# Altium schematic symbol library altium_symbol.SchLib: 58 symbols
Pins are listed as number, name and electrical type; pins without a type are passive.

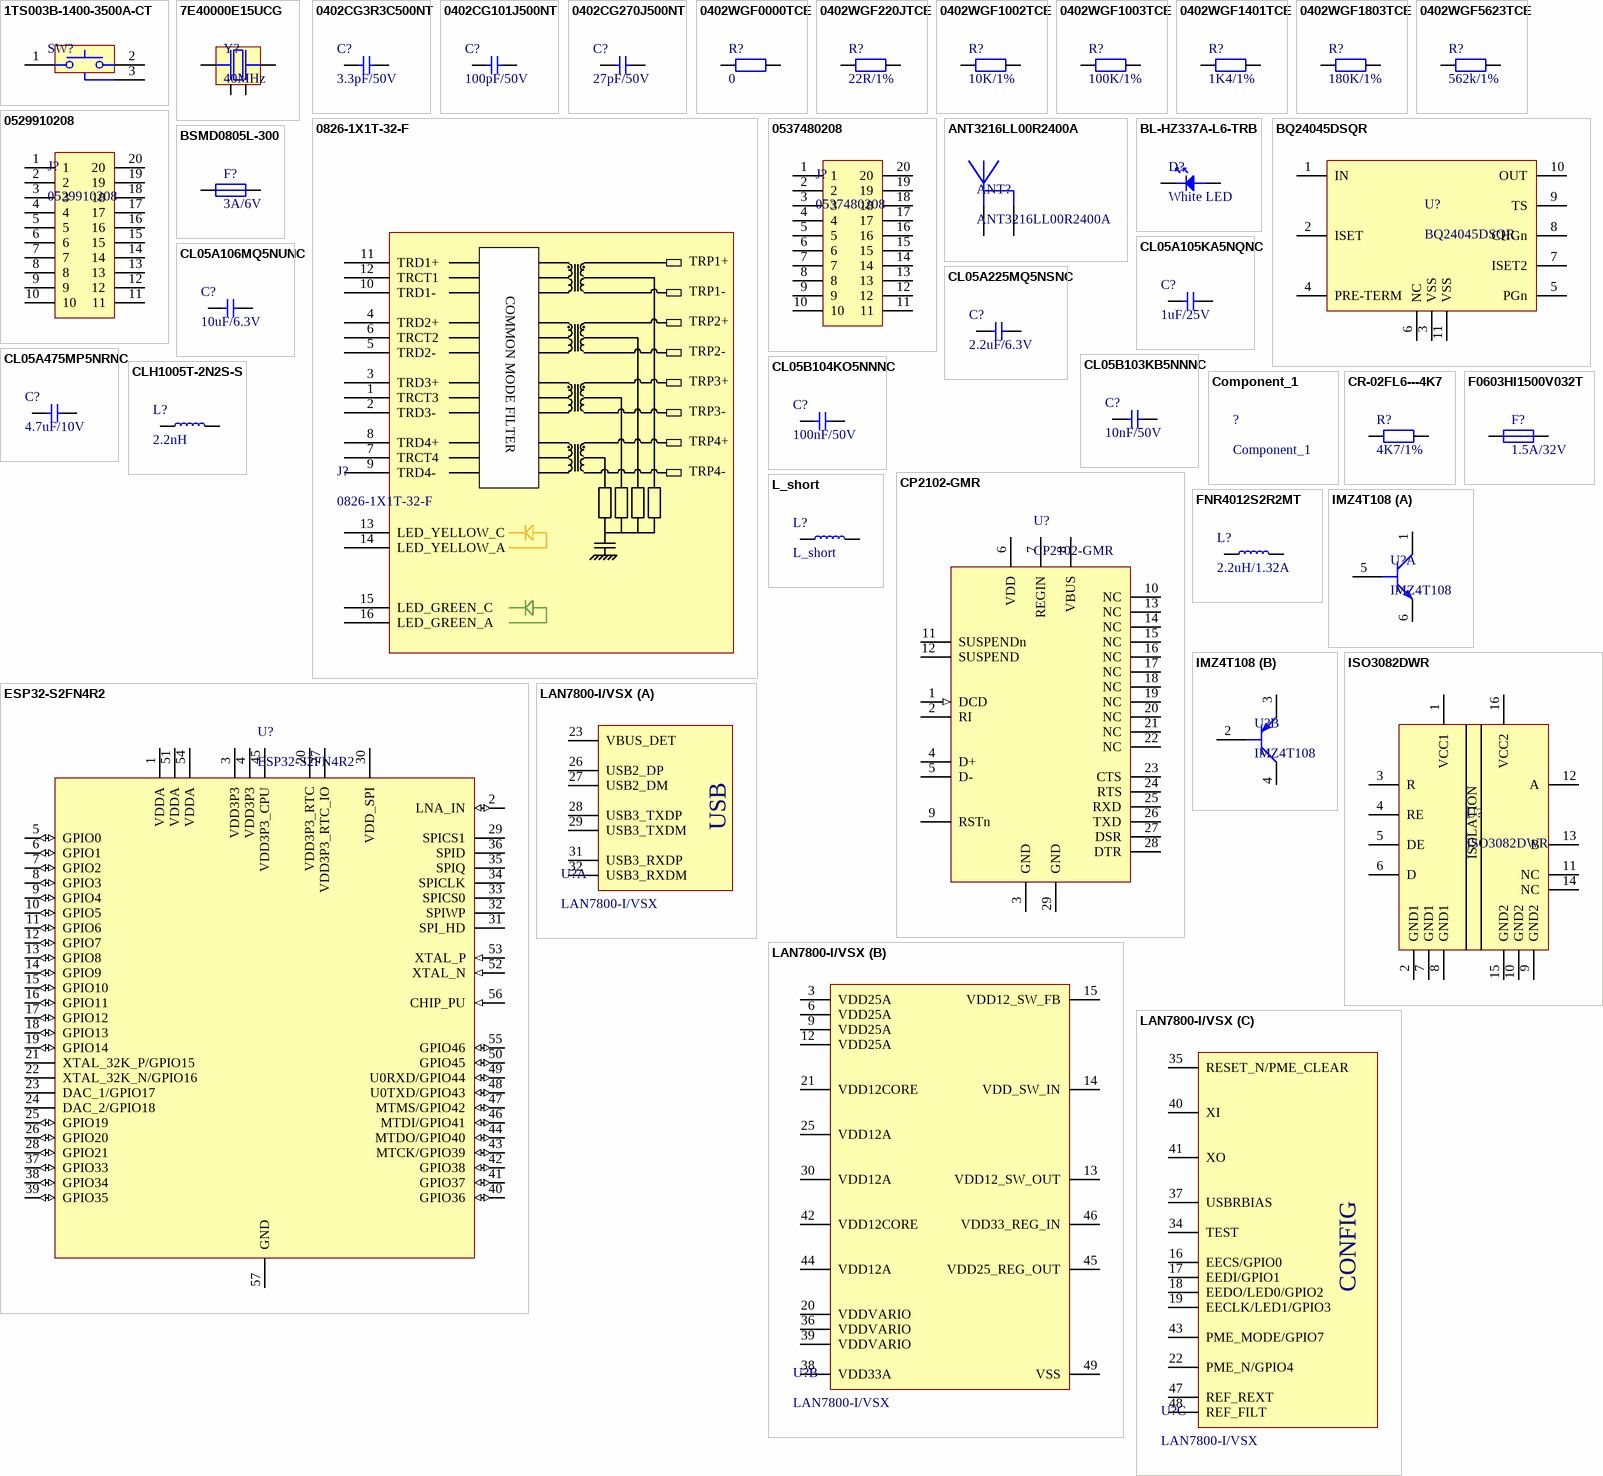
[diagram p0: symbols 1TS003B-1400-3500A-CT to LAN7800-I/VSX]

## 1TS003B-1400-3500A-CT
designator SW?, comment PUSH BUTTON SMD  (value not drawn)
No NO 0.6W J pin 50mA 4.6mm 100MΩ 50000 140gf@±30gf 12V -40℃~+90℃ 1.82mm 3.5mm Black Rectangle button Surface Mount SPST SMD,4.6x1.82x3.5mm  Tactile Switches ROHS; manufacturer: HYP (Hongyuan Precision); mfr_part_number: 1TS003B-1400-3500A-CT; assembler_number: C319392; datasheet: https://datasheet.lcsc.com/lcsc/1811070920_HYP--Hongyuan-Precision-1TS003B-1400-3500A-CT_C319392.pdf
footprint 1TS003B-1400-3500A-CT
pins: 1, 2, 3

## 7E40000E15UCG
designator Y?, comment 40MHz
40MHz SMD Crystal Resonator 15pF ±10ppm ±30ppm -40℃~+85℃ SMD2520-4P  Crystals ROHS; manufacturer: SJK(SHENZHEN CRYSTAL TECH); mfr_part_number: 7E40000E15UCG; assembler_number: C524681; datasheet: https://datasheet.lcsc.com/lcsc/2207271530_SJK-SHENZHEN-CRYSTAL-TECH-7E40000E15UCG_C524681.pdf
footprint 7E40000E15UCG
pins: 1, 2, 3, 4

## 0402CG3R3C500NT
designator C?, comment 3.3pF/50V
50V 3.3pF C0G ±0.25pF 0402  Multilayer Ceramic Capacitors MLCC - SMD/SMT ROHS; manufacturer: FH (Guangdong Fenghua Advanced Tech); mfr_part_number: 0402CG3R3C500NT; assembler_number: C1565; datasheet: https://datasheet.lcsc.com/lcsc/1811141710_FH--Guangdong-Fenghua-Advanced-Tech-0402CG3R3C500NT_C1565.pdf
footprint CAPC1005X06N (Chip Capacitor, 2-Leads, Body 1.00x0.50mm, IPC Medium Density)
pins: 1, 2

## 0402CG101J500NT
designator C?, comment 100pF/50V
50V 100pF C0G ±5% 0402  Multilayer Ceramic Capacitors MLCC - SMD/SMT ROHS; manufacturer: FH (Guangdong Fenghua Advanced Tech); mfr_part_number: 0402CG101J500NT; assembler_number: C1546; datasheet: https://datasheet.lcsc.com/lcsc/1810151218_FH--Guangdong-Fenghua-Advanced-Tech-0402CG101J500NT_C1546.pdf
footprint CAPC1005X06N (Chip Capacitor, 2-Leads, Body 1.00x0.50mm, IPC Medium Density)
pins: 1, 2

## 0402CG270J500NT
designator C?, comment 27pF/50V
50V 27pF C0G ±5% 0402  Multilayer Ceramic Capacitors MLCC - SMD/SMT ROHS; manufacturer: FH (Guangdong Fenghua Advanced Tech); mfr_part_number: 0402CG270J500NT; assembler_number: C1557; datasheet: https://datasheet.lcsc.com/lcsc/1811141710_FH--Guangdong-Fenghua-Advanced-Tech-0402CG270J500NT_C1557.pdf
footprint CAPC1005X06N (Chip Capacitor, 2-Leads, Body 1.00x0.50mm, IPC Medium Density)
pins: 1, 2

## 0402WGF0000TCE
designator R?, comment 0
62.5mW Thick Film Resistors 50V ±800ppm/℃ ±1% -55℃~+155℃ 0Ω 0402  Chip Resistor - Surface Mount ROHS; manufacturer: UNI-ROYAL(Uniroyal Elec); mfr_part_number: 0402WGF0000TCE; assembler_number: C17168; datasheet: https://datasheet.lcsc.com/lcsc/2206010216_UNI-ROYAL-Uniroyal-Elec-0402WGF0000TCE_C17168.pdf
footprint RESC1005X04N (Chip Resistor, 2-Leads, Body 1.00x0.50mm, IPC Medium Density)
pins: 1, 2

## 0402WGF220JTCE
designator R?, comment 22R/1%
62.5mW Thick Film Resistors 50V ±1% ±200ppm/℃ -55℃~+155℃ 22Ω 0402  Chip Resistor - Surface Mount ROHS; manufacturer: UNI-ROYAL(Uniroyal Elec); mfr_part_number: 0402WGF220JTCE; assembler_number: C25092; datasheet: https://datasheet.lcsc.com/lcsc/2205311900_UNI-ROYAL-Uniroyal-Elec-0402WGF220JTCE_C25092.pdf
footprint RESC1005X04N (Chip Resistor, 2-Leads, Body 1.00x0.50mm, IPC Medium Density)
pins: 1, 2

## 0402WGF1002TCE
designator R?, comment 10K/1%
62.5mW Thick Film Resistors 50V ±100ppm/℃ ±1% -55℃~+155℃ 10kΩ 0402  Chip Resistor - Surface Mount ROHS; manufacturer: UNI-ROYAL(Uniroyal Elec); mfr_part_number: 0402WGF1002TCE; assembler_number: C25744; datasheet: https://datasheet.lcsc.com/lcsc/2206010100_UNI-ROYAL-Uniroyal-Elec-0402WGF1002TCE_C25744.pdf
footprint RESC1005X04N (Chip Resistor, 2-Leads, Body 1.00x0.50mm, IPC Medium Density)
pins: 1, 2

## 0402WGF1003TCE
designator R?, comment 100K/1%
62.5mW Thick Film Resistors 50V ±100ppm/℃ ±1% -55℃~+155℃ 100kΩ 0402  Chip Resistor - Surface Mount ROHS; manufacturer: UNI-ROYAL(Uniroyal Elec); mfr_part_number: 0402WGF1003TCE; assembler_number: C25741; datasheet: https://datasheet.lcsc.com/lcsc/2206010100_UNI-ROYAL-Uniroyal-Elec-0402WGF1003TCE_C25741.pdf
footprint RESC1005X04N (Chip Resistor, 2-Leads, Body 1.00x0.50mm, IPC Medium Density)
pins: 1, 2

## 0402WGF1401TCE
designator R?, comment 1K4/1%
62.5mW Thick Film Resistors 50V ±100ppm/℃ ±1% -55℃~+155℃ 1.4kΩ 0402  Chip Resistor - Surface Mount ROHS; manufacturer: UNI-ROYAL(Uniroyal Elec); mfr_part_number: 0402WGF1401TCE; assembler_number: C39650; datasheet: https://datasheet.lcsc.com/lcsc/2206010000_UNI-ROYAL-Uniroyal-Elec-0402WGF1401TCE_C39650.pdf
footprint RESC1005X04N (Chip Resistor, 2-Leads, Body 1.00x0.50mm, IPC Medium Density)
pins: 1, 2

## 0402WGF1803TCE
designator R?, comment 180K/1%
62.5mW Thick Film Resistors 50V ±100ppm/℃ ±1% -55℃~+155℃ 180kΩ 0402  Chip Resistor - Surface Mount ROHS; manufacturer: UNI-ROYAL(Uniroyal Elec); mfr_part_number: 0402WGF1803TCE; assembler_number: C25760; datasheet: https://datasheet.lcsc.com/lcsc/2206010100_UNI-ROYAL-Uniroyal-Elec-0402WGF1803TCE_C25760.pdf
footprint RESC1005X04N (Chip Resistor, 2-Leads, Body 1.00x0.50mm, IPC Medium Density)
pins: 1, 2

## 0402WGF5623TCE
designator R?, comment 562k/1%
62.5mW Thick Film Resistors 50V ±100ppm/℃ ±1% -55℃~+155℃ 562kΩ 0402  Chip Resistor - Surface Mount ROHS; manufacturer: UNI-ROYAL(Uniroyal Elec); mfr_part_number: 0402WGF5623TCE; assembler_number: C48838; datasheet: https://datasheet.lcsc.com/lcsc/2206010000_UNI-ROYAL-Uniroyal-Elec-0402WGF5623TCE_C48838.pdf
footprint RESC1005X04N (Chip Resistor, 2-Leads, Body 1.00x0.50mm, IPC Medium Density)
pins: 1, 2

## 0826-1X1T-32-F
designator J?
1 Port RJ45Through Hole 10/100/1000 Base-T, AutoMDIX; manufacturer: Bel Fuse Inc.; mfr_part_number: 0826-1X1T-32-F; assembler_number: 0826-1X1T-32-F; datasheet: https://www.belfuse.com/resources/drawings/magneticsolutions/dr-mag-0826-1x1t-32-f.pdf
footprint 0826-1X1T-32-F
pins: 1 TRCT3, 2 TRD3-, 3 TRD3+, 4 TRD2+, 5 TRD2-, 6 TRCT2, 7 TRCT4, 8 TRD4+, 9 TRD4-, 10 TRD1-, 11 TRD1+, 12 TRCT1, 13 LED_YELLOW_C, 14 LED_YELLOW_A, 15 LED_GREEN_C, 16 LED_GREEN_A
text: TRP1+; COMMON MODE FILTER; TRP1-; TRP2+; TRP2-; TRP3+; TRP3-; TRP4+; TRP4-

## 0529910208
designator J?
CONN PLUG 20POS SMD GOLD; manufacturer: MOLEX; mfr_part_number: 0529910208; datasheet: https://www.molex.com/pdm_docs/sd/529910208_sd.pdf
footprint 0529910208
pins: 1, 2, 3, 4, 5, 6, 7, 8, 9, 10, 11, 12, 13, 14, 15, 16, 17, 18, 19, 20

## 0537480208
designator J?
CONN PLUG 20POS SMD GOLD; manufacturer: MOLEX; assembler_number: C564063; mfr_part_number: 0537480208; datasheet: https://datasheet.lcsc.com/lcsc/2206301915_MOLEX-537480208_C564063.pdf
footprint 0537480208
pins: 1, 2, 3, 4, 5, 6, 7, 8, 9, 10, 11, 12, 13, 14, 15, 16, 17, 18, 19, 20

## ANT3216LL00R2400A
designator ANT?
1206  Antennas ROHS; manufacturer: YAGEO; assembler_number: C293767; mfr_part_number: ANT3216LL00R2400A; datasheet: https://datasheet.lcsc.com/lcsc/1810241140_YAGEO-ANT3216LL00R2400A_C293767.pdf
footprint INDC3216X14N (Chip Inductor, 2-Leads, Body 3.20x1.60mm, IPC Medium Density)
pins: 1, 2

## BL-HZ337A-L6-TRB
designator D?, comment White LED
White 0402 Light Emitting Diodes (LED) RoHS; manufacturer: BrtLed(Bright LED Elec); mfr_part_number: BL-HZ337A-L6-TRB; assembler_number: C189305; datasheet: https://datasheet.lcsc.com/szlcsc/1809141612_BrtLed-Bright-LED-Elec-BL-HZ337A-L6-TRB_C189305.pdf
footprint RESC1005X04N (Chip Resistor, 2-Leads, Body 1.00x0.50mm, IPC Medium Density)
pins: 1, 2

## BQ24045DSQR
designator U?
WSON-10  Battery Management ICs ROHS; manufacturer: Texas Instruments; assembler_number: C148983; mfr_part_number: BQ24045DSQR; datasheet: https://www.ti.com/lit/ds/symlink/bq24045.pdf?HQS=dis-dk-null-digikeymode-dsf-pf-null-wwe&ts=1671793040477&ref_url=https%253A%252F%252Fwww.ti.com%252Fgeneral%252Fdocs%252Fsuppproductinfo.tsp%253FdistId%253D10%2526gotoUrl%253Dhttps%253A%252F%252Fwww.ti.com%252Flit%252Fgpn%252Fbq24045
footprint SON40P200X80_HS-11N (SON, 10-Leads, Body 2.00x2.00mm, Pitch 0.40mm, Thermal Pad 1.50x0.69mm, IPC Medium Density)
pins: 1 IN, 2 ISET, 3 VSS, 4 PRE-TERM, 5 PGn, 6 NC, 7 ISET2, 8 CHGn, 9 TS, 10 OUT, 11 VSS

## BSMD0805L-300
designator F?, comment 3A/6V
6V 3A 50A 1W -40℃~+85℃ 6A 3mΩ 5s 30mΩ 0805  Resettable Fuses ROHS; manufacturer: BHFUSE; mfr_part_number: BSMD0805L-300; assembler_number: C2757932; datasheet: https://datasheet.lcsc.com/lcsc/2203021130_BHFUSE-BSMD0805L-300_C2757932.pdf
footprint BSMD0805L-300
pins: 1, 2

## CL05A105KA5NQNC
designator C?, comment 1uF/25V
25V 1uF X5R ±10% 0402  Multilayer Ceramic Capacitors MLCC - SMD/SMT ROHS; manufacturer: Samsung Electro-Mechanics; mfr_part_number: CL05A105KA5NQNC; assembler_number: C52923; datasheet: https://datasheet.lcsc.com/lcsc/1811091611_Samsung-Electro-Mechanics-CL05A105KA5NQNC_C52923.pdf
footprint CAPC1005X06N (Chip Capacitor, 2-Leads, Body 1.00x0.50mm, IPC Medium Density)
pins: 1, 2

## CL05A106MQ5NUNC
designator C?, comment 10uF/6.3V
6.3V 10uF X5R ±20% 0402  Multilayer Ceramic Capacitors MLCC - SMD/SMT ROHS; manufacturer: Samsung Electro-Mechanics; mfr_part_number: CL05A106MQ5NUNC; assembler_number: C15525; datasheet: https://datasheet.lcsc.com/lcsc/2208231630_Samsung-Electro-Mechanics-CL05A106MQ5NUNC_C15525.pdf
footprint CAPC1005X06N (Chip Capacitor, 2-Leads, Body 1.00x0.50mm, IPC Medium Density)
pins: 1, 2

## CL05A225MQ5NSNC
designator C?, comment 2.2uF/6.3V
6.3V 2.2uF X5R ±20% 0402  Multilayer Ceramic Capacitors MLCC - SMD/SMT ROHS; manufacturer: Samsung Electro-Mechanics; mfr_part_number: CL05A225MQ5NSNC; assembler_number: C12530; datasheet: https://datasheet.lcsc.com/lcsc/1811021410_Samsung-Electro-Mechanics-CL05A225MQ5NSNC_C12530.pdf
footprint CAPC1005X06N (Chip Capacitor, 2-Leads, Body 1.00x0.50mm, IPC Medium Density)
pins: 1, 2

## CL05A475MP5NRNC
designator C?, comment 4.7uF/10V
10V 4.7uF X5R ±20% 0402  Multilayer Ceramic Capacitors MLCC - SMD/SMT ROHS; manufacturer: Samsung Electro-Mechanics; mfr_part_number: CL05A475MP5NRNC; assembler_number: C23733; datasheet: https://datasheet.lcsc.com/lcsc/1810191211_Samsung-Electro-Mechanics-CL05A475MP5NRNC_C23733.pdf
footprint CAPC1005X06N (Chip Capacitor, 2-Leads, Body 1.00x0.50mm, IPC Medium Density)
pins: 1, 2

## CL05B103KB5NNNC
designator C?, comment 10nF/50V
50V 10nF X7R ±10% 0402  Multilayer Ceramic Capacitors MLCC - SMD/SMT ROHS; manufacturer: Samsung Electro-Mechanics; mfr_part_number: CL05B103KB5NNNC; assembler_number: C15195; datasheet: https://datasheet.lcsc.com/lcsc/1810191223_Samsung-Electro-Mechanics-CL05B103KB5NNNC_C15195.pdf
footprint CAPC1005X06N (Chip Capacitor, 2-Leads, Body 1.00x0.50mm, IPC Medium Density)
pins: 1, 2

## CL05B104KO5NNNC
designator C?, comment 100nF/50V
16V 100nF X7R ±10% 0402  Multilayer Ceramic Capacitors MLCC - SMD/SMT ROHS; manufacturer: Samsung Electro-Mechanics; mfr_part_number: CL05B104KO5NNNC; assembler_number: C1525; datasheet: https://datasheet.lcsc.com/lcsc/1810191219_Samsung-Electro-Mechanics-CL05B104KO5NNNC_C1525.pdf
footprint CAPC1005X06N (Chip Capacitor, 2-Leads, Body 1.00x0.50mm, IPC Medium Density)
pins: 1, 2

## CLH1005T-2N2S-S
designator L?, comment 2.2nH
400mA 2.2nH ±0.3nH 120mΩ 0402  Inductors (SMD) ROHS; manufacturer: Chilisin Elec; mfr_part_number: CLH1005T-2N2S-S; assembler_number: C108254; datasheet: https://datasheet.lcsc.com/lcsc/1811141627_Chilisin-Elec-CLH1005T-2N2S-S_C108254.pdf
footprint INDC1005X05N (Chip Inductor, 2-Leads, Body 1.00x0.50mm, IPC Medium Density)
pins: 1, 2

## Component_1
designator ?
manufacturer: xyz; assembler_number: 12345; mfr_part_number: xyz; datasheet: xyz

## CP2102-GMR
designator U?
Transceiver 1Mbps USB 1/1 QFN-28_5x5x05P  USB ICs ROHS; manufacturer: SILICON LABS; assembler_number: C6568; mfr_part_number: CP2102-GMR; datasheet: https://datasheet.lcsc.com/lcsc/1811081920_SILICON-LABS-CP2102-GMR_C6568.pdf
footprint QFN50P500X500X100_HS-29N (QFN, 28-Leads, Body 5.00x5.00mm, Pitch 0.50mm, Thermal Pad 3.13x3.13mm, IPC Medium Density)
pins: 1 DCD (in), 2 RI, 3 GND, 4 D+, 5 D-, 6 VDD, 7 REGIN, 8 VBUS, 9 RSTn, 10 NC, 11 SUSPENDn, 12 SUSPEND, 13 NC, 14 NC, 15 NC, 16 NC, 17 NC, 18 NC, 19 NC, 20 NC, 21 NC, 22 NC, 23 CTS, 24 RTS, 25 RXD, 26 TXD, 27 DSR, 28 DTR, 29 GND

## CR-02FL6---4K7
designator R?, comment 4K7/1%
62.5mW Thick Film Resistors 50V ±100ppm/℃ ±1% -55℃~+155℃ 4.7kΩ 0402  Chip Resistor - Surface Mount ROHS; manufacturer: Viking Tech; mfr_part_number: CR-02FL6---4K7; assembler_number: C406732; datasheet: https://datasheet.lcsc.com/lcsc/1912111437_Viking-Tech-CR-02FL6---4K7_C406732.pdf
footprint RESC1005X04N (Chip Resistor, 2-Leads, Body 1.00x0.50mm, IPC Medium Density)
pins: 1, 2

## ESP32-S2FN4R2
designator U?
QFN-56  RF Modules ROHS; manufacturer: Espressif Systems; assembler_number: C2844252; mfr_part_number: ESP32-S2FN4R2; datasheet: https://datasheet.lcsc.com/lcsc/2203261130_Espressif-Systems-ESP32-S2FN4R2_C2844252.pdf
footprint QFN40P700X700X90_HS-57N (QFN, 56-Leads, Body 7.00x7.00mm, Pitch 0.40mm, Thermal Pad 4.00x4.00mm, IPC Medium Density)
pins: 1 VDDA (power), 2 LNA_IN (io), 3 VDD3P3 (power), 4 VDD3P3 (power), 5 GPIO0 (io), 6 GPIO1 (io), 7 GPIO2 (io), 8 GPIO3 (io), 9 GPIO4 (io), 10 GPIO5 (io), 11 GPIO6 (io), 12 GPIO7 (io), 13 GPIO8 (io), 14 GPIO9 (io), 15 GPIO10 (io), 16 GPIO11 (io), 17 GPIO12 (io), 18 GPIO13 (io), 19 GPIO14 (io), 20 VDD3P3_RTC (power), 21 XTAL_32K_P/GPIO15, 22 XTAL_32K_N/GPIO16, 23 DAC_1/GPIO17, 24 DAC_2/GPIO18, 25 GPIO19 (io), 26 GPIO20 (io), 27 VDD3P3_RTC_IO (power), 28 GPIO21 (io), 29 SPICS1, 30 VDD_SPI (power), 31 SPI_HD, 32 SPIWP, 33 SPICS0, 34 SPICLK, 35 SPIQ, 36 SPID, 37 GPIO33 (io), 38 GPIO34 (io), 39 GPIO35 (io), 40 GPIO36 (io), 41 GPIO37 (io), 42 GPIO38 (io), 43 MTCK/GPIO39 (io), 44 MTDO/GPIO40 (io), 45 VDD3P3_CPU (power), 46 MTDI/GPIO41 (io), 47 MTMS/GPIO42 (io), 48 U0TXD/GPIO43 (io), 49 U0RXD/GPIO44 (io), 50 GPIO45 (io), 51 VDDA, 52 XTAL_N (in), 53 XTAL_P (in), 54 VDDA, 55 GPIO46 (io), 56 CHIP_PU (in), 57 GND

## F0603HI1500V032T
designator F?, comment 1.5A/32V
50A SMD Ceramic Fuse 1.5A 0.11 101mΩ 0603  Fuses ROHS; manufacturer: AEM; mfr_part_number: F0603HI1500V032T; assembler_number: C96550; datasheet: https://datasheet.lcsc.com/lcsc/1810241823_AEM-F0603HI1500V032T_C96550.pdf
footprint F0603HI1500V032T
pins: 1, 2

## FNR4012S2R2MT
designator L?, comment 2.2uH/1.32A
1.32A 2.2uH ±20% 104mΩ SMD  Power Inductors ROHS; manufacturer: cjiang(Changjiang Microelectronics Tech); mfr_part_number: FNR4012S2R2MT; assembler_number: C167776; datasheet: https://datasheet.lcsc.com/lcsc/1806060533_cjiang-Changjiang-Microelectronics-Tech-FNR4012S2R2MT_C167776.pdf
footprint INDP4040X12N (Precision Wire Wound Inductor, 2-Leads, Body 4.00x4.00mm, IPC Medium Density)
pins: 1, 2

## IMZ4T108
designator U?
NPN,PNP 500mA 32V 300mW SMT6 Transistors (NPN/PNP) RoHS; manufacturer: ROHM Semicon; assembler_number: C139956; mfr_part_number: IMZ4T108; datasheet: https://datasheet.lcsc.com/szlcsc/1810151519_ROHM-Semicon-IMZ4T108_C139956.pdf
footprint TSOP95P280X100-6N (TSOP, 6-Leads, Body 2.90x1.60mm, Pitch 0.95mm, IPC Medium Density)
part A pins: 1, 5, 6
part B pins: 2, 3, 4

## ISO3082DWR
designator U?
2/2 Transceiver, Isolated Half RS422, RS485 16-SOIC; manufacturer: Texas Instruments; mfr_part_number: ISO3082DWR; assembler_number: ISO3082DWR; datasheet: https://www.ti.com/general/docs/suppproductinfo.tsp?distId=10&gotoUrl=https%3A%2F%2Fwww.ti.com%2Flit%2Fgpn%2Fiso3082
footprint SOIC127P1030X265-16N (SOIC, 16-Leads, Body 10.30x7.50mm, Pitch 1.27mm, IPC Medium Density)
pins: 1 VCC1, 2 GND1, 3 R, 4 RE, 5 DE, 6 D, 7 GND1, 8 GND1, 9 GND2, 10 GND2, 11 NC, 12 A, 13 B, 14 NC, 15 GND2, 16 VCC2
text: ISOLATION

## L_short
designator L?  (net tie)
footprint INDC1005X05N (Chip Inductor, 2-Leads, Body 1.00x0.50mm, IPC Medium Density)
pins: 1, 2

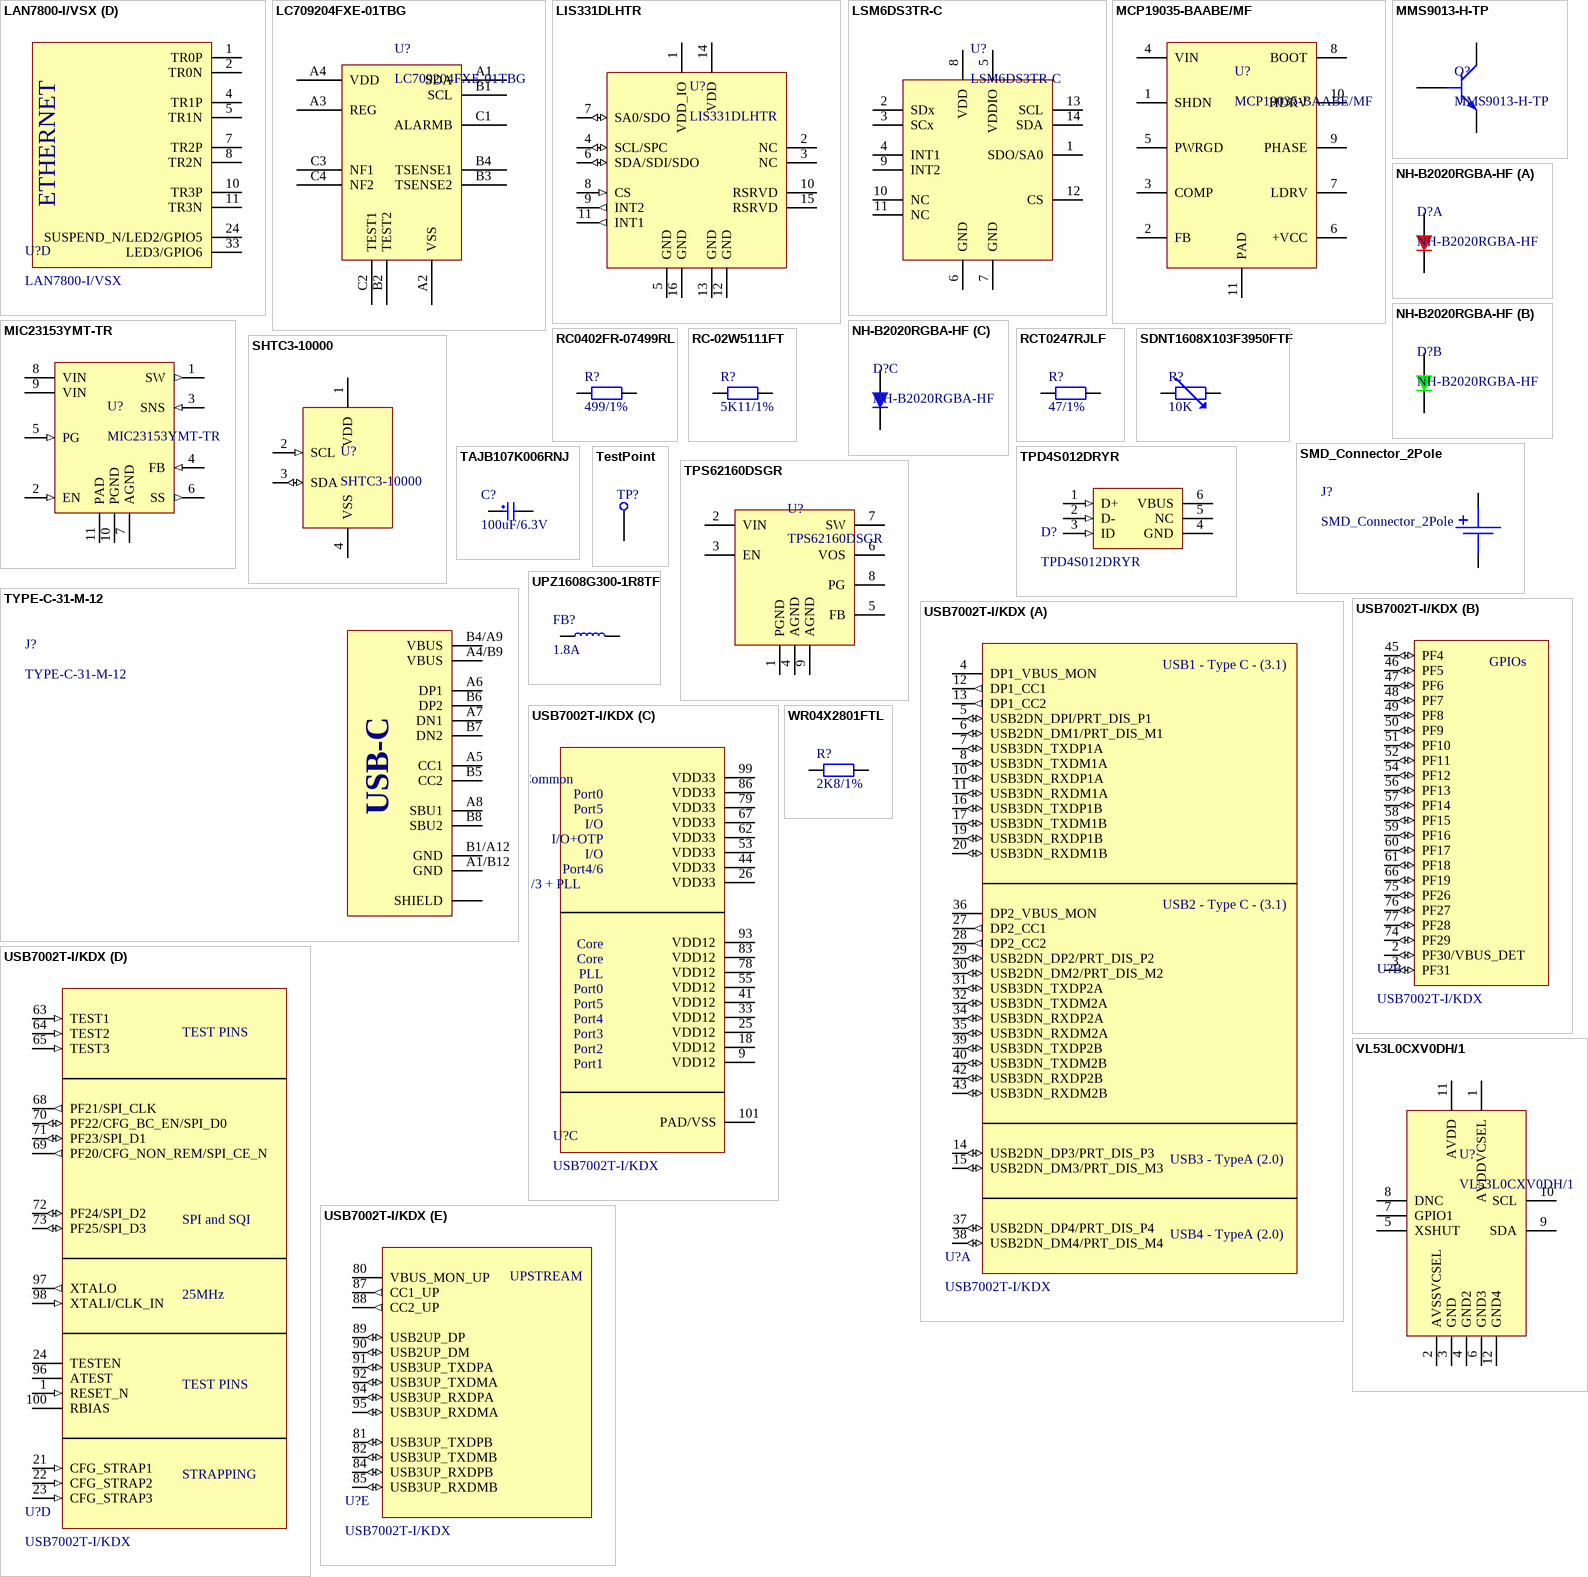
[diagram p1: symbols LAN7800-I/VSX to WR04X2801FTL]

## LAN7800-I/VSX
designator U?
Ethernet Controller 10/100/1000 Base-TX PHY Interface 48-SQFN (6x6); manufacturer: Microchip Technology; mfr_part_number: LAN7800-I/VSX; assembler_number: LAN7800-I/VSX; datasheet: https://ww1.microchip.com/downloads/en/DeviceDoc/LAN7800-Data-Sheet-DS00001992G.pdf
part A pins: 23 VBUS_DET, 26 USB2_DP, 27 USB2_DM, 28 USB3_TXDP, 29 USB3_TXDM, 31 USB3_RXDP, 32 USB3_RXDM
part B pins: 3 VDD25A, 6 VDD25A, 9 VDD25A, 12 VDD25A, 13 VDD12_SW_OUT, 14 VDD_SW_IN, 15 VDD12_SW_FB, 20 VDDVARIO, 21 VDD12CORE, 25 VDD12A, 30 VDD12A, 36 VDDVARIO, 38 VDD33A, 39 VDDVARIO, 42 VDD12CORE, 44 VDD12A, 45 VDD25_REG_OUT, 46 VDD33_REG_IN, 49 VSS
part C pins: 16 EECS/GPIO0, 17 EEDI/GPIO1, 18 EEDO/LED0/GPIO2, 19 EECLK/LED1/GPIO3, 22 PME_N/GPIO4, 34 TEST, 35 RESET_N/PME_CLEAR, 37 USBRBIAS, 40 XI, 41 XO, 43 PME_MODE/GPIO7, 47 REF_REXT, 48 REF_FILT
part D pins: 1 TR0P, 2 TR0N, 4 TR1P, 5 TR1N, 7 TR2P, 8 TR2N, 10 TR3P, 11 TR3N, 24 SUSPEND_N/LED2/GPIO5, 33 LED3/GPIO6
part A text: USB
part C text: CONFIG
part D text: ETHERNET

## LC709204FXE-01TBG
designator U?
WLCSP12(1.48x1.91x0.51)  Battery Management ICs ROHS; manufacturer: onsemi; assembler_number: C895466; mfr_part_number: LC709204FXE-01TBG; datasheet: https://datasheet.lcsc.com/lcsc/2108140630_onsemi-LC709204FXE-01TBG_C895466.pdf
footprint BGA12C40P4X3_191X148X51 (BGA, 12-Leads, Body 1.91x1.48mmx0.51mm, Pitch 0.40mm)
pins: A1 SDA, A2 VSS, A3 REG, A4 VDD, B1 SCL, B2 TEST2, B3 TSENSE2, B4 TSENSE1, C1 ALARMB, C2 TEST1, C3 NF1, C4 NF2

## LIS331DLHTR
designator U?
Accelerometer X, Y, Z Axis ±2g, 4g, 8g 25Hz ~ 500Hz 16-LGA (3x3); manufacturer: STMicroelectronics; mfr_part_number: LIS331DLHTR; assembler_number: LIS331DLHTR; datasheet: https://media.digikey.com/pdf/Data%20Sheets/ST%20Microelectronics%20PDFS/LIS331DLH(TR).pdf
footprint QFN50P300X300X100-16N (QFN, 16-Leads, Body 3.00x3.00mm, Pitch 0.50mm, IPC Medium Density)
pins: 1 VDD_IO, 2 NC, 3 NC, 4 SCL/SPC (io), 5 GND, 6 SDA/SDI/SDO (io), 7 SA0/SDO (io), 8 CS (in), 9 INT2 (out), 10 RSRVD, 11 INT1 (out), 12 GND, 13 GND, 14 VDD, 15 RSRVD, 16 GND

## LSM6DS3TR-C
designator U?
LGA-14L  Attitude Sensor/Gyroscope ROHS; manufacturer: STMicroelectronics; assembler_number: C967633; mfr_part_number: LSM6DS3TR-C; datasheet: https://datasheet.lcsc.com/lcsc/2102261805_STMicroelectronics-LSM6DS3TR-C_C967633.pdf
footprint PQFN50P300X250X86-14N (PQFN, 14-Leads, Body 3.00x2.50mm, Pitch 0.50mm, IPC Medium Density)
pins: 1 SDO/SA0, 2 SDx, 3 SCx, 4 INT1, 5 VDDIO, 6 GND, 7 GND, 8 VDD, 9 INT2, 10 NC, 11 NC, 12 CS, 13 SCL, 14 SDA

## MCP19035-BAABE/MF
designator U?
Buck Regulator Positive Output Step-Down DC-DC Controller IC 10-DFN (3x3); manufacturer: Microchip Technology; mfr_part_number: MCP19035-BAABE/MF; assembler_number: MCP19035-BAABE/MF; datasheet: https://ww1.microchip.com/downloads/en/DeviceDoc/22326B.pdf
footprint PSON50P300X100_HS-11N (PSON, 10-Leads, Body 3.00x3.00mm, Pitch 0.50mm, Thermal Pad 2.30x1.58mm, IPC Medium Density)
pins: 1 SHDN, 2 FB, 3 COMP, 4 VIN, 5 PWRGD, 6 +VCC, 7 LDRV, 8 BOOT, 9 PHASE, 10 HDRV, 11 PAD

## MIC23153YMT-TR
designator U?
Buck Switching Regulator IC Positive Adjustable 0.62V 1 Output 2A 10-UFDFN Exposed Pad, 10-TMLF®; manufacturer: Microchip Technology; mfr_part_number: MIC23153YMT-TR; assembler_number: MIC23153YMT-TR; datasheet: https://ww1.microchip.com/downloads/aemDocuments/documents/APID/ProductDocuments/DataSheets/MIC23153-4-MHz-PWM-2A-Buck-Regulator-with-HyperLight-Load-and-Power-Good-DS20006489B.pdf
footprint PSON50P250X55_HS-11N (PSON, 10-Leads, Body 2.50x2.50mm, Pitch 0.50mm, Thermal Pad 2.10x1.41mm, IPC Medium Density)
pins: 1 SW (out), 2 EN (in), 3 SNS (in), 4 FB (in), 5 PG (in), 6 SS (out), 7 AGND (power), 8 VIN (power), 9 VIN (power), 10 PGND (power), 11 PAD (power)

## MMS9013-H-TP
designator Q?
manufacturer: MCC(Micro Commercial Components); assembler_number: C90160; mfr_part_number: MMS9013-H-TP; datasheet: https://datasheet.lcsc.com/lcsc/1912112237_MCC-Micro-Commercial-Components-MMS9013-H-TP_C90160.pdf
footprint SOT95P237X110-3N (SOT23, 3-Leads, Body 2.90x2.37mm, Pitch 0.95mm, IPC Medium Density)
pins: 1, 2, 3

## NH-B2020RGBA-HF
designator D?
-30℃~+85℃ Common anode RGB 110° SMD,2.1x2.1mm  Light Emitting Diodes (LED) ROHS; manufacturer: Foshan NationStar Optoelectronics; assembler_number: C2874116; mfr_part_number: NH-B2020RGBA-HF; datasheet: https://datasheet.lcsc.com/lcsc/2108150330_Foshan-NationStar-Optoelectronics-NH-B2020RGBA-HF_C2874116.pdf
footprint NH-B2020RGBA-HF
part A pins: 1, 3
part B pins: 3, 4
part C pins: 2, 3

## RC0402FR-07499RL
designator R?, comment 499/1%
62.5mW Thick Film Resistors 50V ±100ppm/℃ ±1% -55℃~+155℃ 499Ω 0402  Chip Resistor - Surface Mount ROHS; manufacturer: YAGEO; mfr_part_number: RC0402FR-07499RL; assembler_number: C137970; datasheet: https://datasheet.lcsc.com/lcsc/1810241332_YAGEO-RC0402FR-07499RL_C137970.pdf
footprint RESC1005X04N (Chip Resistor, 2-Leads, Body 1.00x0.50mm, IPC Medium Density)
pins: 1, 2

## RC-02W5111FT
designator R?, comment 5K11/1%
62.5mW 50V ±1% ±200ppm/℃ -55℃~+155℃ 5.11kΩ 0402  Chip Resistor - Surface Mount ROHS; manufacturer: FH (Guangdong Fenghua Advanced Tech); mfr_part_number: RC-02W5111FT; assembler_number: C310235; datasheet: https://datasheet.lcsc.com/lcsc/1912111437_FH--Guangdong-Fenghua-Advanced-Tech-RC-02W5111FT_C310235.pdf
footprint RESC1005X04N (Chip Resistor, 2-Leads, Body 1.00x0.50mm, IPC Medium Density)
pins: 1, 2

## RCT0247RJLF
designator R?, comment 47/1%
62.5mW ±5% 47Ω 0402  Chip Resistor - Surface Mount ROHS; manufacturer: HKR(Hong Kong Resistors); mfr_part_number: RCT0247RJLF; assembler_number: C174246; datasheet: https://datasheet.lcsc.com/lcsc/1810251713_HKR-Hong-Kong-Resistors-RCT0247RJLF_C174246.pdf
footprint RESC1005X04N (Chip Resistor, 2-Leads, Body 1.00x0.50mm, IPC Medium Density)
pins: 1, 2

## SDNT1608X103F3950FTF
designator R?, comment 10K
10kΩ -55℃~+125℃ 0.33mA 100mW ±1% 3950K ±1% 0603  NTC Thermistors ROHS; manufacturer: Sunlord; mfr_part_number: SDNT1608X103F3950FTF; assembler_number: C279936; datasheet: https://datasheet.lcsc.com/lcsc/2110081430_Sunlord-SDNT1608X103F3950FTF_C279936.pdf
footprint RESC1005X04N (Chip Resistor, 2-Leads, Body 1.00x0.50mm, IPC Medium Density)
pins: 1, 2

## SHTC3-10000
designator U?
DFN  Temperature and Humidity Sensor ROHS; manufacturer: Sensirion; assembler_number: C2880044; mfr_part_number: SHTC3-10000; datasheet: https://datasheet.lcsc.com/lcsc/2108150430_Sensirion-SHTC3-10000_C2880044.pdf
footprint SON100P200X75_HS-5N (SON, 4-Leads, Body 2.00x2.00mm, Pitch 1.00mm, Thermal Pad 1.60x0.70mm, IPC Medium Density)
pins: 1 VDD, 2 SCL (in), 3 SDA (io), 4 VSS

## SMD_Connector_2Pole
designator J?  (mechanical)
footprint BATTERY_SMD_CONN
pins: 1 +, 2 -

## TAJB107K006RNJ
designator C?, comment 100uF/6.3V
100uF 6.3V -55℃~+125℃ 1.7Ω@100kHz ±10% CASE-B_3528 Tantalum Capacitors ROHS; manufacturer: Kyocera AVX; mfr_part_number: TAJB107K006RNJ; assembler_number: C16133; datasheet: https://datasheet.lcsc.com/lcsc/2111161030_Kyocera-AVX-TAJB107K006RNJ-_C16133.pdf
footprint CAPMP3528X21N (Molded Capacitor, 2-Leads, Body 3.50x2.80mm, IPC Medium Density)
pins: 1, 2

## TestPoint
designator TP?, comment Test Point 1mm  (value not drawn)
footprint TEST_POINT_1mm
pins: 1

## TPD4S012DRYR
designator D?
3A 5.5V 6V Unidirectional SON-6  ESD Protection Devices ROHS; manufacturer: Texas Instruments; assembler_number: C96506; mfr_part_number: TPD4S012DRYR; datasheet: https://www.ti.com/cn/lit/gpn/tpd4s012
footprint SON50P100X60-6N (SON, 6-Leads, Body 1.45x1.00mm, Pitch 0.50mm, IPC Medium Density)
pins: 1 D+ (in), 2 D- (in), 3 ID (in), 4 GND, 5 NC, 6 VBUS

## TPS62160DSGR
designator U?
Step-down type WSON-8  DC-DC Converters ROHS; manufacturer: Texas Instruments; assembler_number: C324077; mfr_part_number: TPS62160DSGR; datasheet: https://www.ti.com/cn/lit/gpn/tps62160
footprint SON50P200X80_HS-9N (SON, 8-Leads, Body 2.00x2.00mm, Pitch 0.50mm, Thermal Pad 1.60x0.69mm, IPC Medium Density)
pins: 1 PGND, 2 VIN, 3 EN, 4 AGND, 5 FB, 6 VOS, 7 SW, 8 PG, 9 AGND

## TYPE-C-31-M-12
designator J?
5A 1 16 Female Type-C SMD  USB Connectors ROHS; manufacturer: Korean Hroparts Elec; assembler_number: C165948; mfr_part_number: TYPE-C-31-M-12; datasheet: https://datasheet.lcsc.com/lcsc/2205251630_Korean-Hroparts-Elec-TYPE-C-31-M-12_C165948.pdf
footprint TYPE-C-31-M-12
pins: A1/B12 GND, A4/B9 VBUS, A5 CC1, A6 DP1, A7 DN1, A8 SBU1, B1/A12 GND, B4/A9 VBUS, B5 CC2, B6 DP2, B7 DN2, B8 SBU2, SHIELD
text: USB-C

## UPZ1608G300-1R8TF
designator FB?, comment 1.8A
1.8A 1 60mΩ 30Ω@100MHz ±25% 0603  Ferrite Beads ROHS; manufacturer: Sunlord; mfr_part_number: UPZ1608G300-1R8TF; assembler_number: C919159; datasheet: https://datasheet.lcsc.com/lcsc/2110100030_Sunlord-UPZ1608G300-1R8TF_C919159.pdf
footprint INDC1608X10N (Chip Inductor, 2-Leads, Body 1.65x0.80mm, IPC Medium Density)
pins: 1, 2

## USB7002T-I/KDX
designator U?
USB Hub Controller USB 3.1 USB Interface 100-VQFN (12x12); manufacturer: Microchip Technology; mfr_part_number: USB7002T-I/KDX; assembler_number: USB7002T-I/KDX; datasheet: https://ww1.microchip.com/downloads/en/DeviceDoc/USB7002-Data-Sheet-DS00002670F.pdf
footprint QFN40P1200X1200X90_HS-101N (QFN, 100-Leads, Body 12.00x12.00mm, Pitch 0.40mm, Thermal Pad 8.10x8.10mm, IPC Medium Density)
part A pins: 4 DP1_VBUS_MON (power), 5 USB2DN_DPI/PRT_DIS_P1 (io), 6 USB2DN_DM1/PRT_DIS_M1 (io), 7 USB3DN_TXDP1A (io), 8 USB3DN_TXDM1A (io), 10 USB3DN_RXDP1A (io), 11 USB3DN_RXDM1A (io), 12 DP1_CC1 (out), 13 DP1_CC2 (out), 14 USB2DN_DP3/PRT_DIS_P3 (io), 15 USB2DN_DM3/PRT_DIS_M3 (io), 16 USB3DN_TXDP1B (io), 17 USB3DN_TXDM1B (io), 19 USB3DN_RXDP1B (io), 20 USB3DN_RXDM1B (io), 27 DP2_CC1 (out), 28 DP2_CC2 (out), 29 USB2DN_DP2/PRT_DIS_P2 (io), 30 USB2DN_DM2/PRT_DIS_M2 (io), 31 USB3DN_TXDP2A (io), 32 USB3DN_TXDM2A (io), 34 USB3DN_RXDP2A (io), 35 USB3DN_RXDM2A (io), 36 DP2_VBUS_MON (power), 37 USB2DN_DP4/PRT_DIS_P4 (io), 38 USB2DN_DM4/PRT_DIS_M4 (io), 39 USB3DN_TXDP2B (io), 40 USB3DN_TXDM2B (io), 42 USB3DN_RXDP2B (io), 43 USB3DN_RXDM2B (io)
part B pins: 2 PF30/VBUS_DET (io), 3 PF31 (io), 45 PF4 (io), 46 PF5 (io), 47 PF6 (io), 48 PF7 (io), 49 PF8 (io), 50 PF9 (io), 51 PF10 (io), 52 PF11 (io), 54 PF12 (io), 56 PF13 (io), 57 PF14 (io), 58 PF15 (io), 59 PF16 (io), 60 PF17 (io), 61 PF18 (io), 66 PF19 (io), 74 PF29 (io), 75 PF26 (io), 76 PF27 (io), 77 PF28 (io)
part C pins: 9 VDD12 (power), 18 VDD12 (power), 25 VDD12 (power), 26 VDD33 (power), 33 VDD12 (power), 41 VDD12 (power), 44 VDD33 (power), 53 VDD33 (power), 55 VDD12 (power), 62 VDD33 (power), 67 VDD33 (power), 78 VDD12 (power), 79 VDD33 (power), 83 VDD12 (power), 86 VDD33 (power), 93 VDD12 (power), 99 VDD33 (power), 101 PAD/VSS (power)
part D pins: 1 RESET_N (in), 21 CFG_STRAP1 (in), 22 CFG_STRAP2 (in), 23 CFG_STRAP3 (in), 24 TESTEN, 63 TEST1 (in), 64 TEST2 (in), 65 TEST3 (in), 68 PF21/SPI_CLK (out), 69 PF20/CFG_NON_REM/SPI_CE_N (out), 70 PF22/CFG_BC_EN/SPI_D0 (io), 71 PF23/SPI_D1 (io), 72 PF24/SPI_D2 (io), 73 PF25/SPI_D3 (io), 96 ATEST, 97 XTALO (out), 98 XTALI/CLK_IN (in), 100 RBIAS
part E pins: 80 VBUS_MON_UP, 81 USB3UP_TXDPB (io), 82 USB3UP_TXDMB (io), 84 USB3UP_RXDPB (io), 85 USB3UP_RXDMB (io), 87 CC1_UP (out), 88 CC2_UP (out), 89 USB2UP_DP (io), 90 USB2UP_DM (io), 91 USB3UP_TXDPA (io), 92 USB3UP_TXDMA (io), 94 USB3UP_RXDPA (io), 95 USB3UP_RXDMA (io)
part A text: USB1 - Type C - (3.1); USB2 - Type C - (3.1); USB3 - TypeA (2.0); USB4 - TypeA (2.0)
part B text: GPIOs
part C text: Port1+Common; Port0; Port5; I/O; I/O+OTP; Port4/6; Port2/3 + PLL; Core; PLL; Port4; Port3; Port2; Port1
part D text: TEST PINS; SPI and SQI; 25MHz; STRAPPING
part E text: UPSTREAM

## VL53L0CXV0DH/1
designator U?
4.4*2.4*1.0mm  Position Sensor ROHS; manufacturer: STMicroelectronics; assembler_number: C91199; mfr_part_number: VL53L0CXV0DH/1; datasheet: https://datasheet.lcsc.com/lcsc/1811101103_STMicroelectronics-VL53L0CXV0DH-1_C91199.pdf
footprint VL53L0CXV0DH/1
pins: 1 AVDDVCSEL, 2 AVSSVCSEL, 3 GND, 4 GND2, 5 XSHUT, 6 GND3, 7 GPIO1, 8 DNC, 9 SDA, 10 SCL, 11 AVDD, 12 GND4

## WR04X2801FTL
designator R?, comment 2K8/1%
62.5mW 50V ±100ppm/℃ ±1% -55℃~+155℃ 2.8kΩ 0402  Chip Resistor - Surface Mount ROHS; manufacturer: Walsin Tech Corp; mfr_part_number: WR04X2801FTL; assembler_number: C172044; datasheet: https://datasheet.lcsc.com/lcsc/1810191632_Walsin-Tech-Corp-WR04X2801FTL_C172044.pdf
footprint RESC1005X04N (Chip Resistor, 2-Leads, Body 1.00x0.50mm, IPC Medium Density)
pins: 1, 2